# EAGLE library part CAS-220 (library SSI)
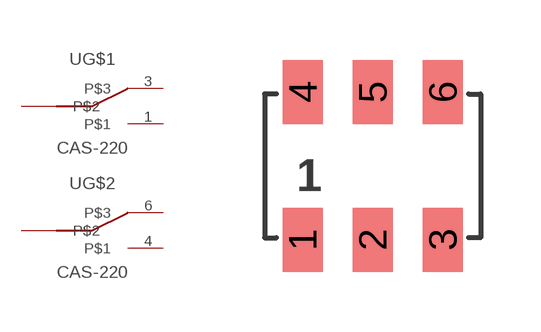
[diagram p15: symbol with the pads of CAS-220; footprint CAS-220]

Designator prefix -; gates G$1=SPDT_SWITCH G$2=SPDT_SWITCH

## CAS-220  [CAS-220]
1  G$1:P$1
2  G$1:P$2
3  G$1:P$3
4  G$2:P$1
5  G$2:P$2
6  G$2:P$3

## Footprint CAS-220 (pad centres in mm)
smd 1 x 1.6: 1 -1.75,-1.85; 2 0,-1.85; 3 1.75,-1.85; 4 -1.75,1.85; 5 0,1.85; 6 1.75,1.85